# EAGLE library part WIFLY-RN-131C (library P442)
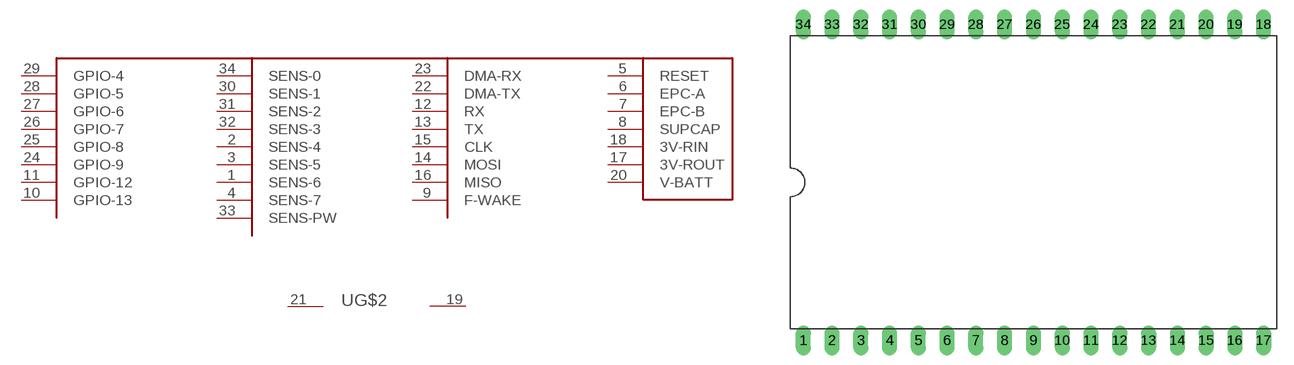
[diagram p8: symbol with the pads of DIL34-11; footprint DIL34-11]

Designator prefix -; gates G$1=WIFLY-RN-131C G$2=PWR_GND

## WIFLY-RN-131C  [DIL34-11]
1  G$1:SENS-6
2  G$1:SENS-4
3  G$1:SENS-5
4  G$1:SENS-7
5  G$1:RESET
6  G$1:EPC-A
7  G$1:EPC-B
8  G$1:SUPCAP
9  G$1:F-WAKE
10  G$1:GPIO-13
11  G$1:GPIO-12
12  G$1:RX
13  G$1:TX
14  G$1:MOSI
15  G$1:CLK
16  G$1:MISO
17  G$1:3V-ROUT
18  G$1:3V-RIN
19  G$2:GND  pwr
20  G$1:V-BATT
21  G$2:VCC  pwr
22  G$1:DMA-TX
23  G$1:DMA-RX
24  G$1:GPIO-9
25  G$1:GPIO-8
26  G$1:GPIO-7
27  G$1:GPIO-6
28  G$1:GPIO-5
29  G$1:GPIO-4
30  G$1:SENS-1
31  G$1:SENS-2
32  G$1:SENS-3
33  G$1:SENS-PW
34  G$1:SENS-0

## Footprint DIL34-11 (pad centres in mm)
drill 0.813 long: 1 -12.7,-13.97; 2 -10.16,-13.97; 3 -7.62,-13.97; 4 -5.08,-13.97; 5 -2.54,-13.97; 6 0,-13.97; 7 2.54,-13.97; 8 5.08,-13.97; 9 7.62,-13.97; 10 10.16,-13.97; 11 12.7,-13.97; 12 15.24,-13.97; 13 17.78,-13.97; 14 20.32,-13.97; 15 22.86,-13.97; 16 25.4,-13.97; 17 27.94,-13.97; 18 27.94,13.97; 19 25.4,13.97; 20 22.86,13.97; 21 20.32,13.97; 22 17.78,13.97; 23 15.24,13.97; 24 12.7,13.97; 25 10.16,13.97; 26 7.62,13.97; 27 5.08,13.97; 28 2.54,13.97; 29 0,13.97; 30 -2.54,13.97; 31 -5.08,13.97; 32 -7.62,13.97; 33 -10.16,13.97; 34 -12.7,13.97